# EAGLE library part PE4306 (library NewSDR)
Peregrine 50 Ohm RF Digital Attenuator 5-bit, 31dB, DC-4 GHz
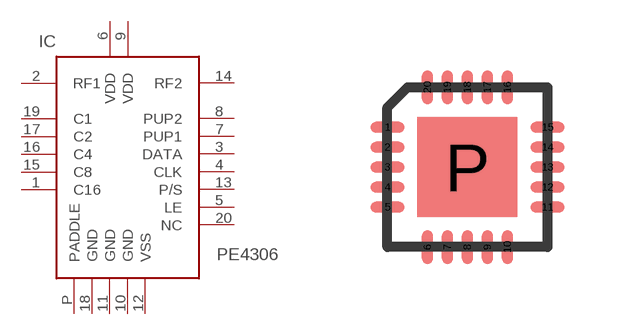
[diagram p5: symbol with the pads of QFN-20_P; footprint QFN-20_P]

Designator prefix IC

## PE4306  [QFN-20_P]
1  C16  in
2  RF1  in
3  DATA  in
4  CLK  in
5  LE  in
6  VDD  pwr
7  PUP1  in
8  PUP2  in
9  VDD  pwr
10  GND  pwr
11  GND  pwr
12  VSS  pwr
13  P/S  in
14  RF2
15  C8  in
16  C4  in
17  C2  in
18  GND  pwr
19  C1  in
20  NC
P  PADDLE  pwr

## Footprint QFN-20_P (pad centres in mm)
20-pin QFN
smd 0.85 x 0.28: 1 -2,1; 2 -2,0.5; 3 -2,0; 4 -2,-0.5; 5 -2,-1; 11 2,-1; 12 2,-0.5; 13 2,0; 14 2,0.5; 15 2,1
smd 0.28 x 0.85: 6 -1,-2; 7 -0.5,-2; 8 0,-2; 9 0.5,-2; 10 1,-2; 16 1,2; 17 0.5,2; 18 0,2; 19 -0.5,2; 20 -1,2
smd 2.5 x 2.5: P 0,0